# EAGLE library part PCM510XA (library ali_modules)
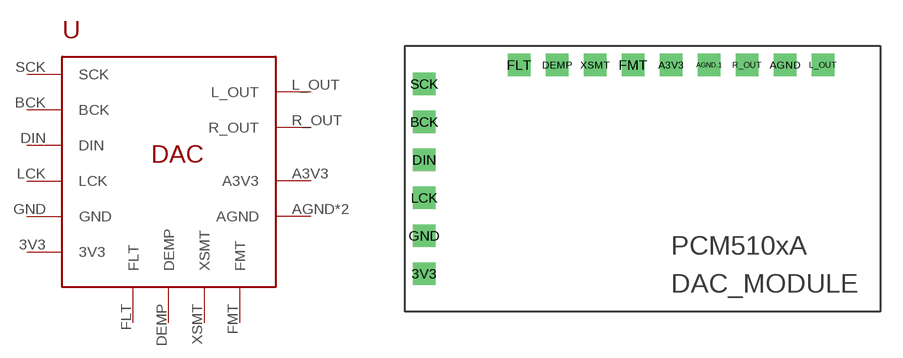
[diagram p1: symbol with the pads of DAC_MODULE; footprint DAC_MODULE]

Designator prefix -

## PCM510XA  [DAC_MODULE]
3V3  3V3
A3V3  A3V3
AGND  AGND
AGND.1  AGND
BCK  BCK
DEMP  DEMP
DIN  DIN
FLT  FLT
FMT  FMT
GND  GND
L_OUT  L_OUT
LCK  LCK
R_OUT  R_OUT
SCK  SCK
XSMT  XSMT

## Footprint DAC_MODULE (pad centres in mm)
drill 1 square: 3V3 -17.78,-7.62; A3V3 -1.27,6.35; AGND 6.35,6.35; AGND.1 1.27,6.35; BCK -17.78,2.54; DEMP -8.89,6.35; DIN -17.78,0; FLT -11.43,6.35; FMT -3.81,6.35; GND -17.78,-5.08; L_OUT 8.89,6.35; LCK -17.78,-2.54; R_OUT 3.81,6.35; SCK -17.78,5.08; XSMT -6.35,6.35